# EAGLE library part MAX202 (library robot)
RS232 TRANSEIVER
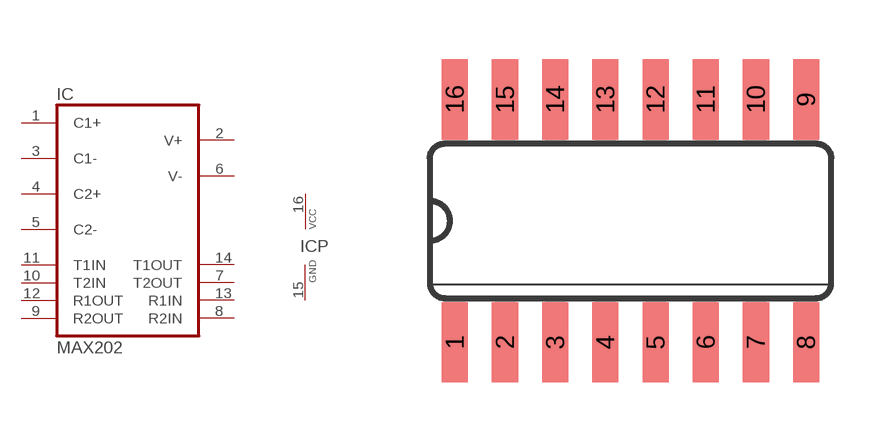
[diagram p1: symbol with the pads of SO16; footprint SO16]

Designator prefix IC; gates =MAX232 P=VCC-GND

## MAX202  [SO16]
1  :C1+
2  :V+
3  :C1-
4  :C2+
5  :C2-
6  :V-
7  :T2OUT  out
8  :R2IN  in
9  :R2OUT  out
10  :T2IN  in
11  :T1IN  in
12  :R1OUT  out
13  :R1IN  in
14  :T1OUT  out
15  P:GND  pwr
16  P:VCC  pwr

## Footprint SO16 (pad centres in mm)
Small Outline package 150 mil
smd 0.66 x 2.032: 1 -4.445,-3.073; 2 -3.175,-3.073; 3 -1.905,-3.073; 4 -0.635,-3.073; 5 0.635,-3.073; 6 1.905,-3.073; 7 3.175,-3.073; 8 4.445,-3.073; 9 4.445,3.073; 10 3.175,3.073; 11 1.905,3.073; 12 0.635,3.073; 13 -0.635,3.073; 14 -1.905,3.073; 15 -3.175,3.073; 16 -4.445,3.073